# Altium footprint library OLED_SH1106.PcbLib: 1 footprints
Each footprint in its own frame and in the unit in brackets; x right, y up, seen from the top. Pads: shape width x height; smd on the part's side, far side on the other; paste and mask are expansions set on the pad; w line width, h text height; cw(c..) or ccw(c..) is an arc to the next point about the centre after c.
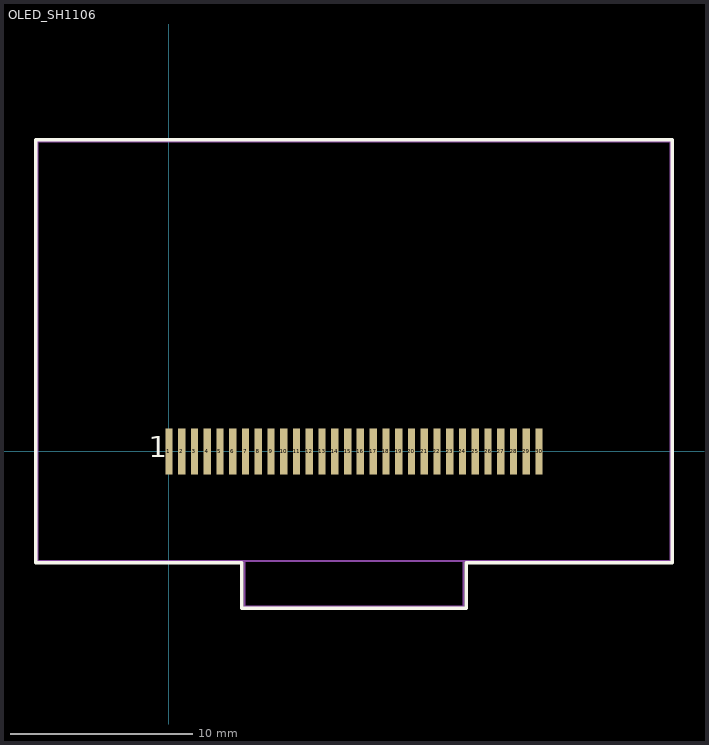
[diagram p0: the footprint, top view; thin cyan lines are the x and y axes]

## OLED_SH1106 [mm]
height 2
pads (30):
  rect 0.4x2.5 smd: 1(0,0) 2(0.7,0) 3(1.4,0) 4(2.1,0) 5(2.8,0) 6(3.5,0) 7(4.2,0) 8(4.9,0) 9(5.6,0) 10(6.3,0) 11(7,0) 12(7.7,0) 13(8.4,0) 14(9.1,0) 15(9.8,0) 16(10.5,0) 17(11.2,0) 18(11.9,0) 19(12.6,0) 20(13.3,0) 21(14,0) 22(14.7,0) 23(15.4,0) 24(16.1,0) 25(16.8,0) 26(17.5,0) 27(18.2,0) 28(18.9,0) 29(19.6,0) 30(20.3,0)
Top Overlay:
  lines w0.2: -7.3,-6.1 4,-6.1 4,-8.6 16.3,-8.6 16.3,-6.1 27.6,-6.1 27.6,17.1 -7.3,17.1 -7.3,-6.1
  text "1" at -1.1,-0.7 h2
Mechanical 13:
  lines w0.1: 4.15,-6 4.15,-8.5 16.15,-8.5 16.15,-6 ; -7.2,-6 27.5,-6 27.5,17 -7.2,17 -7.2,-6